# EAGLE library part HA9P5002-5 (library Intersil_By_element14_Batch_1)
High output current, buffer amplifier
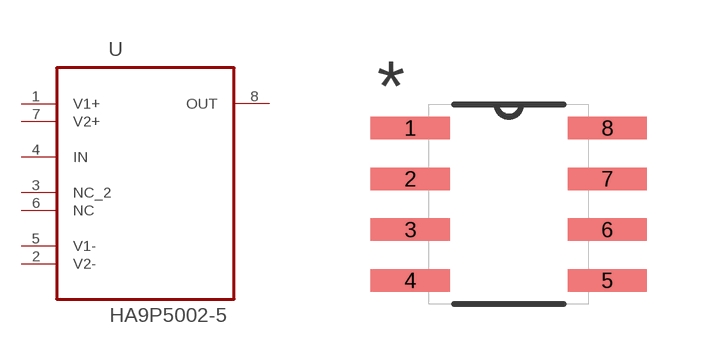
[diagram p101: symbol with the pads of SOIC127P600X175-8N; footprint SOIC127P600X175-8N]

Designator prefix U

## HA9P5002-5 (MPN: HA9P5002-5; OC_FARNELL: -; OC_NEWARK: 05B6435; PACKAGE: 8-SOIC; SUPPLIER: Intersil)  [SOIC127P600X175-8N]
1  V1+  pwr
2  V2-  pwr
3  NC_2  nc
4  IN  in
5  V1-  pwr
6  NC  nc
7  V2+  pwr
8  OUT  out

## Footprint SOIC127P600X175-8N (pad centres in mm)
smd 1.981 x 0.559: 1 -2.464,1.905; 2 -2.464,0.635; 3 -2.464,-0.635; 4 -2.464,-1.905; 5 2.464,-1.905; 6 2.464,-0.635; 7 2.464,0.635; 8 2.464,1.905